# Altium footprint library DBV0005A_M.PcbLib: 1 footprints
Each footprint in its own frame and in the unit in brackets; x right, y up, seen from the top. Pads: shape width x height; smd on the part's side, far side on the other; paste and mask are expansions set on the pad; w line width, h text height; cw(c..) or ccw(c..) is an arc to the next point about the centre after c.
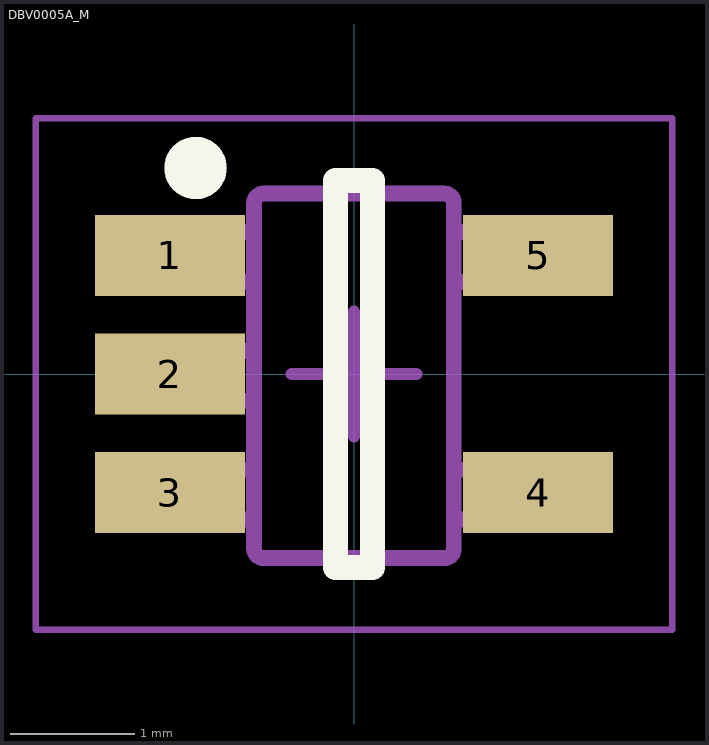
[diagram p0: the footprint, top view; thin cyan lines are the x and y axes]

## DBV0005A_M [mm]
pads (5):
  rect 1.2x0.65 smd paste+0 mask+0.051: 1(-1.475,0.95) 2(-1.475,0) 3(-1.475,-0.95) 4(1.475,-0.95) 5(1.475,0.95)
Top Overlay:
  circle w0.25: c-1.27,1.651 r0.125
  lines w0.2: -0.15,-1.55 -0.15,1.55 0.15,1.55 0.15,-1.55 -0.15,-1.55
Mechanical 13:
  lines w0.127: -0.801,1.371 cw(c-0.725,1.37) -0.725,1.446 ; -0.801,1.37 -0.801,-1.399 -0.801,-1.4 ccw(c-0.725,-1.399) -0.725,-1.475 ; -0.801,1.37 -0.801,1.371 ; -0.725,-1.475 -0.725,-1.475 ; -0.725,-1.475 0.723,-1.475 0.724,-1.475 ccw(c0.723,-1.399) 0.799,-1.4 0.799,-1.399 0.799,1.37 ; -0.725,1.446 0.723,1.446 0.724,1.446 cw(c0.723,1.37) 0.799,1.371 ; -0.725,1.446 -0.725,1.446 ; 0.799,1.37 0.799,1.371 ; -1.423,-1.167 -1.199,-1.167 -1.105,-1.167 -1.088,-1.167 -0.835,-1.167 -0.801,-1.167 -0.801,-0.767 -0.835,-0.767 -1.088,-0.767 -1.105,-0.767 -1.199,-0.767 -1.423,-0.767 -1.423,-1.167 ; -1.423,-0.215 -1.199,-0.215 -1.105,-0.215 -1.088,-0.215 -0.835,-0.215 -0.801,-0.215 -0.801,0.186 -0.835,0.186 -1.088,0.186 -1.105,0.186 -1.199,0.186 -1.423,0.186 -1.423,-0.215 ; -1.423,0.738 -1.199,0.738 -1.105,0.738 -1.088,0.738 -0.835,0.738 -0.801,0.738 -0.801,1.138 -0.835,1.138 -1.088,1.138 -1.105,1.138 -1.199,1.138 -1.423,1.138 -1.423,0.738 ; 0.799,-1.167 0.799,-0.767 0.834,-0.767 1.087,-0.767 1.103,-0.767 1.198,-0.767 1.422,-0.767 1.422,-1.167 1.198,-1.167 1.103,-1.167 1.087,-1.167 0.834,-1.167 0.799,-1.167 ; 0.799,0.738 0.799,1.138 0.834,1.138 1.087,1.138 1.103,1.138 1.198,1.138 1.422,1.138 1.422,0.738 1.198,0.738 1.103,0.738 1.087,0.738 0.834,0.738 0.799,0.738
Mechanical 15:
  lines w0.05: -2.55,-2.05 -2.55,2.05 2.55,2.05 2.55,-2.05 -2.55,-2.05
  lines w0.1: -0.5,0 0.5,0 ; 0,-0.5 0,0.5
3D body: height 0.25, standoff 0, extent 0,0 0.254,0.254
3D body "DBV0005A.stp": height 1.2, standoff 0, extent -1.4,-1.45 1.4,1.45